# EAGLE library part TQ4-* (library relay)
LOW PROFILE 2 FORM C RELAY NAiS Source: http://www.mew-europe.com/.. en_ds_61020_0001.pdf
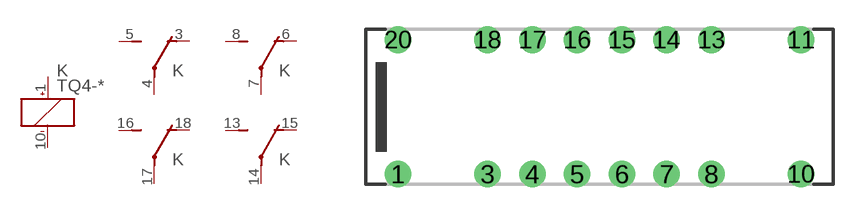
[diagram p68: symbol with the pads of TQ4; footprint TQ4]

Designator prefix K; gates _=K+- 1=U 2=U 3=U 4=U

## TQ4-12C (OC_FARNELL: unknown; OC_NEWARK: unknown), TQ4-24V (MF: AROMAT/ MATSUSHITA; MPN: TQ4-24V; OC_FARNELL: 1608334; OC_NEWARK: 64K3210), TQ4-3V (MPN: TQ4-3V; OC_FARNELL: unknown; OC_NEWARK: 13P9240), TQ4-4.5V (MPN: TQ4-4.5V; OC_FARNELL: unknown; OC_NEWARK: 13P9241), TQ4-48V (OC_FARNELL: unknown; OC_NEWARK: unknown), TQ4-5V (MF: AROMAT/ MATSUSHITA; MPN: TQ4-5V; OC_FARNELL: 1448362; OC_NEWARK: 67K1293), TQ4-6V (OC_FARNELL: unknown; OC_NEWARK: unknown), TQ4-9V (OC_FARNELL: unknown; OC_NEWARK: unknown)  [TQ4]
1  _:+  pas
3  1:O  pas
4  1:P  pas
5  1:S  pas
6  2:O  pas
7  2:P  pas
8  2:S  pas
10  _:-  pas
13  4:S  pas
14  4:P  pas
15  4:O  pas
16  3:S  pas
17  3:P  pas
18  3:O  pas

## TQ4-12VL- (OC_FARNELL: unknown; OC_NEWARK: unknown), TQ4-24VL- (OC_FARNELL: unknown; OC_NEWARK: unknown), TQ4-3VL- (OC_FARNELL: unknown; OC_NEWARK: unknown), TQ4-4.5VL- (OC_FARNELL: unknown; OC_NEWARK: unknown), TQ4-5VL- (OC_FARNELL: 1448362; OC_NEWARK: unknown), TQ4-6VL- (OC_FARNELL: unknown; OC_NEWARK: unknown), TQ4-9VL- (OC_FARNELL: unknown; OC_NEWARK: unknown)  [TQ4]
1  _:-  pas
3  1:O  pas
4  1:P  pas
5  1:S  pas
6  2:O  pas
7  2:P  pas
8  2:S  pas
10  _:+  pas
13  4:S  pas
14  4:P  pas
15  4:O  pas
16  3:S  pas
17  3:P  pas
18  3:O  pas

## Footprint TQ4 (pad centres in mm)
LOW PROFILE 2 FORM C RELAY NAiS Source: http://www.mew-europe.com/.. en_ds_61020_0001.pdf
drill 1: 1 -11.43,-3.81; 3 -6.35,-3.81; 4 -3.81,-3.81; 5 -1.27,-3.81; 6 1.27,-3.81; 7 3.81,-3.81; 8 6.35,-3.81; 10 11.43,-3.81; 11 11.43,3.81; 13 6.35,3.81; 14 3.81,3.81; 15 1.27,3.81; 16 -1.27,3.81; 17 -3.81,3.81; 18 -6.35,3.81; 20 -11.43,3.81